# EAGLE library part RJMG2012211A0FR (library Modular Jacks)
CONN MAGJACK 1PORT 1000 BASE-T Manufacturer's datasheet <https://cdn.amphenol-icc.com/media/wysiwyg/files/drawing/rjmg2012211a0fr.pdf?__cf_chl_jschl_tk__=94e64007269d5955a5e55b06fbb08b8c175d373f-1576734744-0-AcpyjmgW3b3ioWCdI73_9g139ayVe67Qwmr8QchHMDlSRizR8O2SHOnVbVfcNEeNYEJdkAMfldBR_Qt7Cwqbf17ZGuEbr4Y-uGBcqPEcjlVySXZfaZyPnM_Ws0FmQ2PPtSugmEV3dQnPKWH8HrIsATv0bPhsRCrPKZCNXjzhOKSg1pl5C4zX2NYnM_iciwc_A1gUZhOP2BtFm5OxQvMCeG9AdYHZF9fP1lJcWR3DFiK5lDXbB92oLkZHEMCFBiUnwoYHS2M5WGQJDYG3E1FOyIhQDJtHFtEXtC5z79FCAkcm2Pu13WaLI8b11kx7qoDXg-v1vkmEThiw5wHVDIOnYdGG405Hx2vsaWvsRx7aG5lBl90X3__fUah1-URJEgYxkQ>
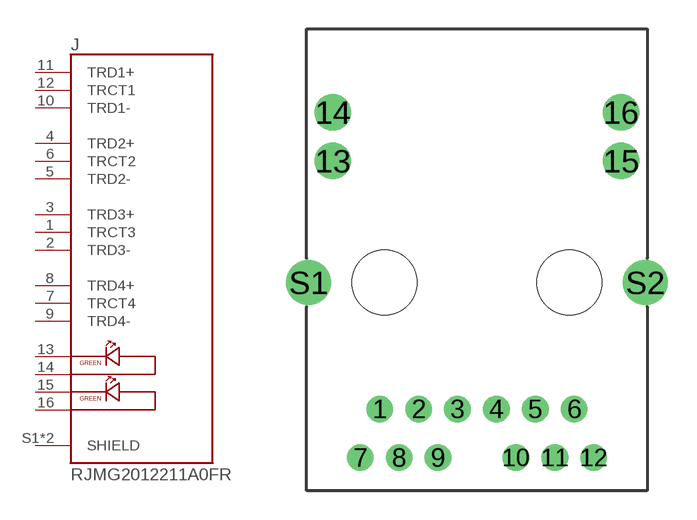
[diagram p4: symbol with the pads of RJMG2012211A0FR; footprint RJMG2012211A0FR]

Designator prefix J

## RJMG2012211A0FR (CREATED_BY: PCBLayout.com; DIGIKEY_PARTNO: RJMG2012211A0FR-ND; MANUFACTURER: Amphenol ICC (Commercial Products); MPN: RJMG2012211A0FR)  [RJMG2012211A0FR]
1  TRCT3  pas
2  TRD3-  pas
3  TRD3+  pas
4  TRD2+  pas
5  TRD2-  pas
6  TRCT2  pas
7  TRCT4  pas
8  TRD4+  pas
9  TRD4-  pas
10  TRD1-  pas
11  TRD1+  pas
12  TRCT1  hiz
13  13  pas
14  14  pas
15  15  pas
16  16  pas
S1  SHIELD  pwr
S2  SHIELD  pwr

## Footprint RJMG2012211A0FR (pad centres in mm)
drill 0.89: 1 -5.075,-6.6; 2 -3.045,-6.6; 3 -1.015,-6.6; 4 1.015,-6.6; 5 3.045,-6.6; 6 5.075,-6.6; 7 -6.09,-9.14; 8 -4.06,-9.14; 9 -2.03,-9.14; 10 2.03,-9.14; 11 4.06,-9.14; 12 6.09,-9.14
drill 1.27: 13 -7.52,6.35; 14 -7.52,8.89; 15 7.52,6.35; 16 7.52,8.89
drill 1.57: S1 -8.79,0; S2 8.79,0
hole 3.4 at -4.825,0
hole 3.4 at 4.825,0